# EAGLE library part FT232R (library StasDuino_Lib)
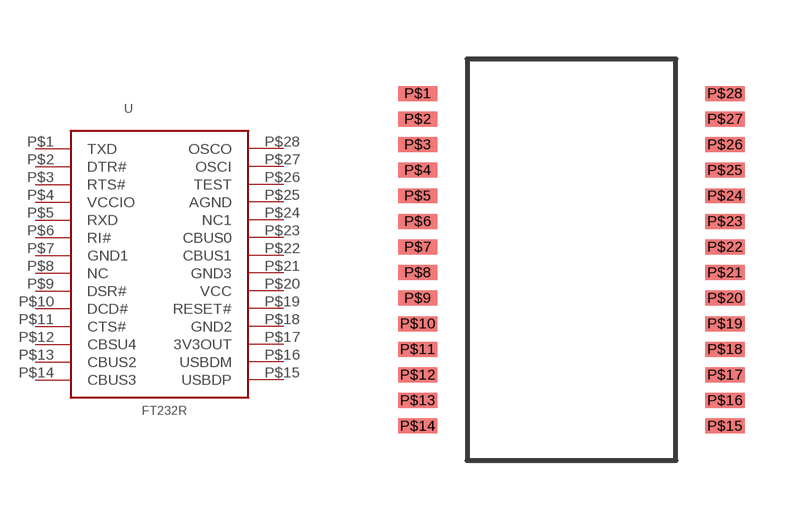
[diagram p2: symbol with the pads of FT232R; footprint FT232R]

Designator prefix -

## FT232R  [FT232R]
P$1  TXD
P$2  DTR#
P$3  RTS#
P$4  VCCIO
P$5  RXD
P$6  RI#
P$7  GND1
P$8  NC
P$9  DSR#
P$10  DCD#
P$11  CTS#
P$12  CBSU4
P$13  CBUS2
P$14  CBUS3
P$15  USBDP
P$16  USBDM
P$17  3V3OUT
P$18  GND2
P$19  RESET#
P$20  VCC
P$21  GND3
P$22  CBUS1
P$23  CBUS0
P$24  NC1
P$25  AGND
P$26  TEST
P$27  OSCI
P$28  OSCO

## Footprint FT232R (pad centres in mm)
smd 1 x 0.38: P$1 -3.9,4.225; P$2 -3.9,3.575; P$3 -3.9,2.925; P$4 -3.9,2.275; P$5 -3.9,1.625; P$6 -3.9,0.975; P$7 -3.9,0.325; P$8 -3.9,-0.325; P$9 -3.9,-0.975; P$10 -3.9,-1.625; P$11 -3.9,-2.275; P$12 -3.9,-2.925; P$13 -3.9,-3.575; P$14 -3.9,-4.225; P$15 3.9,-4.225; P$16 3.9,-3.575; P$17 3.9,-2.925; P$18 3.9,-2.275; P$19 3.9,-1.625; P$20 3.9,-0.975; P$21 3.9,-0.325; P$22 3.9,0.325; P$23 3.9,0.975; P$24 3.9,1.625; P$25 3.9,2.275; P$26 3.9,2.925; P$27 3.9,3.575; P$28 3.9,4.225